# Altium schematic symbol library LED_BLU.Schlib: 1 symbol
Pins are listed as number, name and electrical type; pins without a type are passive.

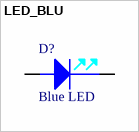
[diagram p0: symbol LED_BLU]

## LED_BLU
designator D?, comment Blue LED
LED, Blue
pins: A, C